# Altium schematic symbol library Diodes.SchLib: 1 symbol
Pins are listed as number, name and electrical type; pins without a type are passive.

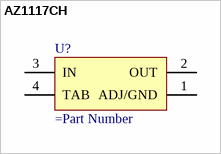
[diagram p0: symbol AZ1117CH]

## AZ1117CH
designator U?
pins: 1 ADJ/GND (power), 2 OUT (power), 3 IN (power), 4 TAB (power)